# Altium schematic symbol library Motor.SchLib: 1 symbol
Pins are listed as number, name and electrical type; pins without a type are passive.

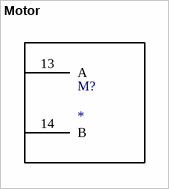
[diagram p0: symbol Motor]

## Motor
designator M?
pins: 13 A, 14 B